# Altium schematic symbol library Schlib.SchLib: 15 symbols
Pins are listed as number, name and electrical type; pins without a type are passive.

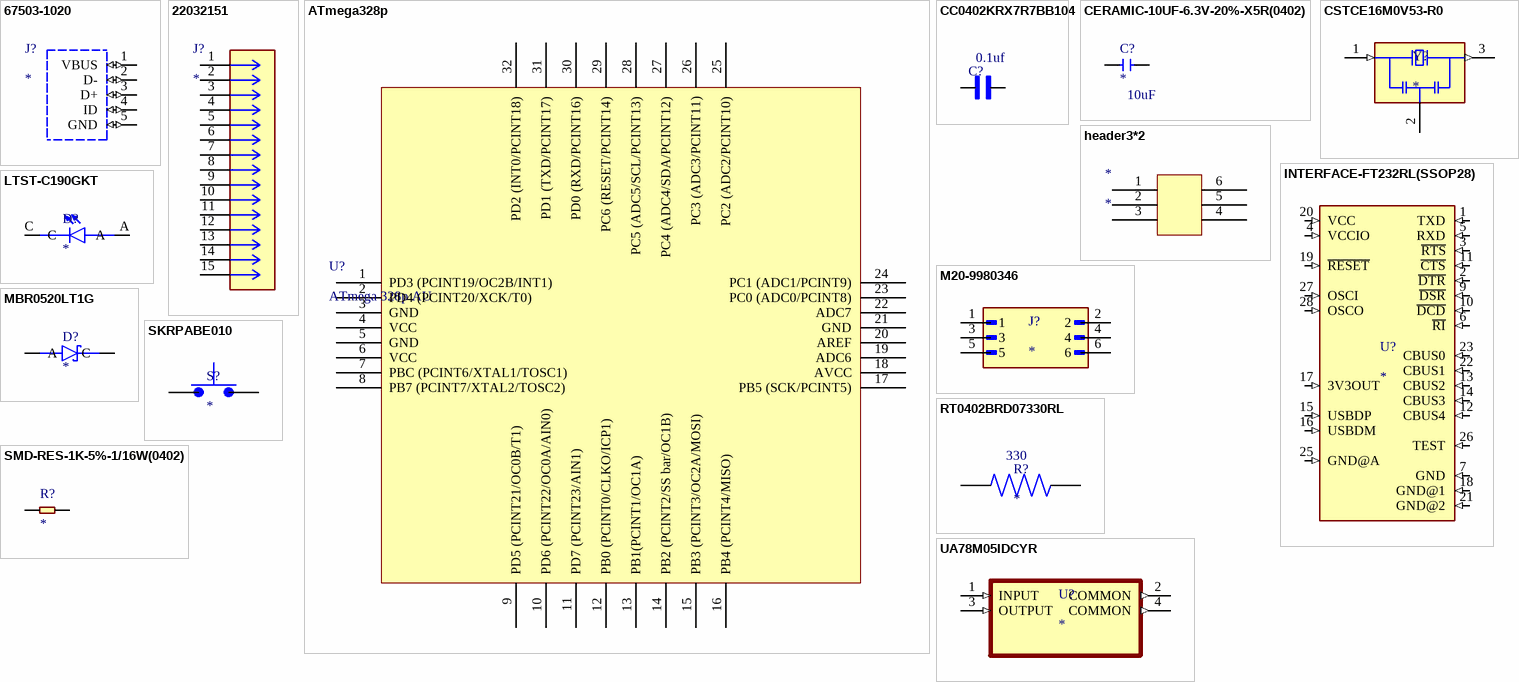
[diagram p0: symbols 67503-1020 to UA78M05IDCYR]

## 67503-1020
designator J?
Conn Data USB Mini-B SMT Rt Angle Solder Tabs On-The-Go PCB Pegs LF | Molex Incorporated 67503-1020; SnapEDA_Link: https://www.snapeda.com/parts/67503-1020/Molex/view-part/?ref=snap; Package: None; Value: *; MF: Molex; MP: 67503-1020; Check_prices: https://www.snapeda.com/parts/67503-1020/Molex/view-part/?ref=eda
footprint 67503-1020
pins: 1 VBUS (io), 2 D- (io), 3 D+ (io), 4 ID (io), 5 GND (io)

## 22032151
designator J?
MP: 22032151; Package: None; Price: None; Value: *; Availability: Unavailable
footprint CONN15X1_22032151_MOL
pins: 1, 2, 3, 4, 5, 6, 7, 8, 9, 10, 11, 12, 13, 14, 15

## ATmega328p
designator U?, comment ATmega 328p AU
footprint ATmega328P (CQFP, 32-Leads, Body 9,00x9,00mm, Pitch 0,80mm, IPC Medium Density)
pins: 1 PD3 (PCINT19/OC2B/INT1) , 2 PD4 (PCINT20/XCK/T0) , 3 GND, 4 VCC, 5 GND, 6 VCC, 7 PBC (PCINT6/XTAL1/TOSC1), 8 PB7 (PCINT7/XTAL2/TOSC2), 9 PD5 (PCINT21/OC0B/T1) , 10 PD6 (PCINT22/OC0A/AIN0) , 11 PD7 (PCINT23/AIN1), 12 PB0 (PCINT0/CLKO/ICP1), 13 PB1(PCINT1/OC1A), 14 PB2 (PCINT2/SS bar/OC1B), 15 PB3 (PCINT3/OC2A/MOSI) , 16 PB4 (PCINT4/MISO), 17 PB5 (SCK/PCINT5), 18 AVCC, 19 ADC6, 20 AREF, 21 GND, 22 ADC7, 23 PC0 (ADC0/PCINT8), 24 PC1 (ADC1/PCINT9), 25 PC2 (ADC2/PCINT10), 26 PC3 (ADC3/PCINT11), 27 PC4 (ADC4/SDA/PCINT12), 28 PC5 (ADC5/SCL/PCINT13), 29 PC6 (RESET/PCINT14), 30 PD0 (RXD/PCINT16), 31 PD1 (TXD/PCINT17), 32 PD2 (INT0/PCINT18)

## CC0402KRX7R7BB104
designator C?  value 0.1uf  (hidden comment: *)
0.1 ÂµF Â±10% 16V Ceramic Capacitor X7R 0402 (1005 Metric); MF: Yageo; MP: CC0402KRX7R7BB104; SnapEDA_Link: https://www.snapeda.com/parts/CC0402KRX7R7BB104/Yageo/view-part/?ref=snap; Package: 0402 Yageo; Check_prices: https://www.snapeda.com/parts/CC0402KRX7R7BB104/Yageo/view-part/?ref=eda
footprint CAPC1005X55N
pins: 1, 2

## CERAMIC-10UF-6.3V-20%-X5R(0402)
designator C?  value 10uF
10 ÂµF Â±20% 6.3V Ceramic Capacitor X5R 0402 (1005 Metric); MF: Yageo; MP: CC0402MRX5R5BB106; SnapEDA_Link: https://www.snapeda.com/parts/CC0402MRX5R5BB106/Yageo/view-part/?ref=snap; Package: 0402 Yageo; Check_prices: https://www.snapeda.com/parts/CC0402MRX5R5BB106/Yageo/view-part/?ref=eda
footprint C0402
pins: 1, 2

## CSTCE16M0V53-R0
designator Y?
16 MHz Ceramic Resonator Built in Capacitor 15 pF Â±0.3% -20Â°C ~ 80Â°C Surface Mount; MF: Murata; MP: CSTCE16M0V53-R0-; SnapEDA_Link: https://www.snapeda.com/parts/CSTCE16M0V53-R0-/Murata/view-part/?ref=snap; Package: None; Value: *; Check_prices: https://www.snapeda.com/parts/CSTCE16M0V53-R0-/Murata/view-part/?ref=eda
footprint OSC_CSTCE16M0V53-R0
pins: 1 IN (in), 2 GND (power), 3 OUT (out)

## header3*2
designator *
pins: 1, 2, 3, 4, 5, 6

## INTERFACE-FT232RL(SSOP28)
designator U?
USB-Ð¼Ð¾ÑÑ‚, Ð¸Ð½Ñ‚ÐµÑ€Ñ„ÐµÐ¹Ñ USB Ðº UART USB 2.0 UART 28-SSOP; MP: FT232RL; MF: FTDI, Future; SnapEDA_Link: https://www.snapeda.com/parts/FT232RL/FTDI%252C+Future+Technology+Devices+International+Ltd/view-part/?ref=snap; Availability: Not in stock; Price: None; Value: *; Check_prices: https://www.snapeda.com/parts/FT232RL/FTDI%252C+Future+Technology+Devices+International+Ltd/view-part/?ref=eda; Package: SSOP-28 FTDI
footprint SSOP28-0.65-10.2X5.2MM
pins: 1 TXD (in), 2 ~{DTR} (in), 3 ~{RTS} (in), 4 VCCIO (in), 5 RXD (in), 6 ~{RI} (in), 7 GND (in), 9 ~{DSR} (in), 10 ~{DCD} (in), 11 ~{CTS} (in), 12 CBUS4 (in), 13 CBUS2 (in), 14 CBUS3 (in), 15 USBDP (in), 16 USBDM (in), 17 3V3OUT (in), 18 GND@1 (in), 19 ~{RESET} (in), 20 VCC (in), 21 GND@2 (in), 22 CBUS1 (in), 23 CBUS0 (in), 25 GND@A (in), 26 TEST (in), 27 OSCI (in), 28 OSCO (in)

## LTST-C190GKT
designator D?
Green 1.6 x 0.8 x 0.8 mm 130Â° Water Clear 6 mcd 2.1 V SMT LED; MP: LTST-C190GKT; Value: *; Price: None; Package: None; Availability: Unavailable
footprint LEDM1608X80
pins: A, C

## M20-9980346
designator J?
MP: M20-9980346; Package: None; Price: None; Value: *; Availability: Unavailable
footprint HARWIN_M20-9980346
pins: 1, 2, 3, 4, 5, 6

## MBR0520LT1G
designator D?
Diode Schottky 20 V 500mA Surface Mount SOD-123; MF: ON Semiconductor; MP: MBR0520LT1G; SnapEDA_Link: https://www.snapeda.com/parts/MBR0520LT1G/Onsemi/view-part/?ref=snap; Package: SOD-123-2 ON Semiconductor; Value: *; Check_prices: https://www.snapeda.com/parts/MBR0520LT1G/Onsemi/view-part/?ref=eda
footprint SOD3716X135N
pins: A, C

## RT0402BRD07330RL
designator R?  value 330
330 Ohms Â±0.1% 0.063W, 1/16W Chip Resistor 0402 (1005 Metric) Thin Film; MF: Yageo; MP: RT0402BRD07330RL; SnapEDA_Link: https://www.snapeda.com/parts/RT0402BRD07330RL/Yageo/view-part/?ref=snap; Package: 1005 Yageo; Check_prices: https://www.snapeda.com/parts/RT0402BRD07330RL/Yageo/view-part/?ref=eda
footprint RESC1005X35N
pins: 1, 2

## SKRPABE010
designator S?
Switch Tactile N.O. SPST Button J-Bend 0.05A 16VDC 1.57N SMD Automotive T/R; MF: ALPS; MP: SKRPABE010; SnapEDA_Link: https://www.snapeda.com/parts/SKRPABE010/ALPS/view-part/?ref=snap; Package: None; Value: *; Check_prices: https://www.snapeda.com/parts/SKRPABE010/ALPS/view-part/?ref=eda
footprint SW_SKRPABE010
pins: 1, 2 1, 3 2, 4 2

## SMD-RES-1K-5%-1/16W(0402)
designator R?
301010006; MF: {'manufacturer': u'YAGEO'}; MP: RC0402JR-071KL; Package: None; Price: None; Value: *; Availability: Unavailable
footprint R0402
pins: 1, 2

## UA78M05IDCYR
designator U?
500-mA, 30-V, linear voltage regulator; MF: Texas Instruments; MP: UA78M05IDCYR; SnapEDA_Link: https://www.snapeda.com/parts/UA78M05IDCYR/Texas+Instruments/view-part/?ref=snap; Package: SOT-223-4 Texas Instruments; Value: *; Check_prices: https://www.snapeda.com/parts/UA78M05IDCYR/Texas+Instruments/view-part/?ref=eda
footprint SOT230P700X180-4N
pins: 1 INPUT (in), 2 COMMON (out), 3 OUTPUT (in), 4 COMMON (out)